# EAGLE library part DGPOT (library gm-pots)
Dual Ganged Potentiometer two voltage dividers controlled by a single knob the arrow indicates the clockwise motion of th wiper (lug 2) fully counter clockwise there is no resistance between lugs 1 and 2 fully clockwise the resistance between lugs 1 and 2 is the value of the pot
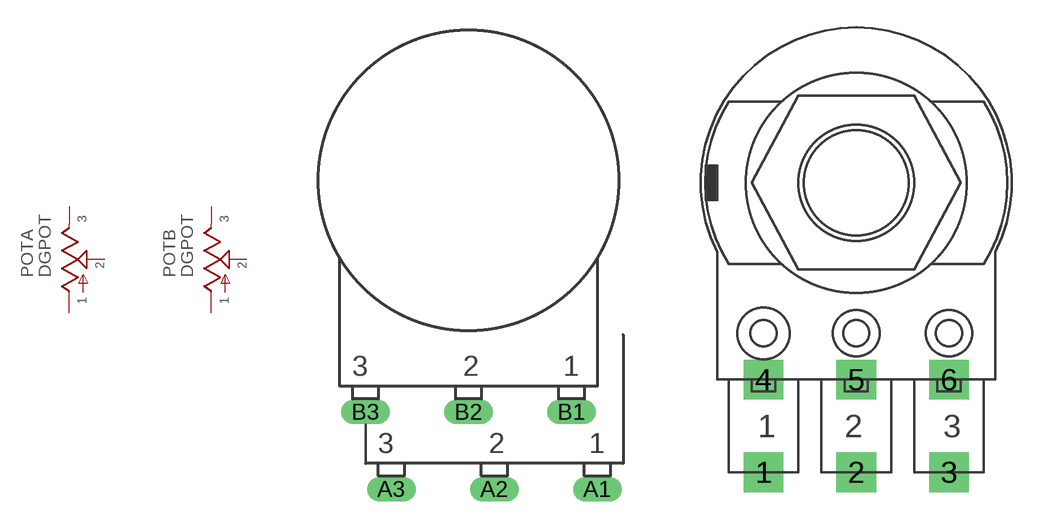
[diagram p0: symbol with the pads of 16MM-DUALGANGED; footprints 16MM-DUALGANGED, SOLDER-PIN-DUALGANGED]

Designator prefix POT; gates A=POT B=POT

## DGPOT  [16MM-DUALGANGED]
A1  A:1  pas
A2  A:2  pas
A3  A:3  pas
B1  B:1  pas
B2  B:2  pas
B3  B:3  pas

## DGPOTALPHA-DG  [SOLDER-PIN-DUALGANGED]
1  B:1  pas
2  B:2  pas
3  B:3  pas
4  A:1  pas
5  A:2  pas
6  A:3  pas

## DGPOT_GFE  [SLIDER]
1  A:1  pas
2  A:2  pas
3  A:3  pas
11  B:1  pas
12  B:2  pas
13  B:3  pas

## DGPOTSEPAR  [DG-PIN]
1-1  A:1  pas
1-2  A:2  pas
1-3  A:3  pas
2-1  B:1  pas
2-2  B:2  pas
2-3  B:3  pas

## Footprint 16MM-DUALGANGED (pad centres in mm)
drill 0.7 long: A1 6.35,-11.43; A2 1.27,-11.43; A3 -3.81,-11.43; B1 5.08,-7.62; B2 0,-7.62; B3 -5.08,-7.62

## Footprint SOLDER-PIN-DUALGANGED (pad centres in mm)
drill 1.3 pad 2.184 square: 1 -5.08,-15.875; 2 0,-15.875; 3 5.08,-15.875; 4 -5.08,-10.795; 5 0,-10.795; 6 5.08,-10.795

## Footprint SLIDER (pad centres in mm)
drill 0.8 offset: 1 -27.305,2.857; 2 27.622,0.953; 3 27.622,2.857; 11 -27.305,-0.953; 12 27.622,-2.857; 13 27.622,-0.953; V1 -27.305,0.953; V2 -27.305,-2.857
drill 1.651: P$1 16.828,0; P$2 -16.828,0

## Footprint DG-PIN (pad centres in mm)
drill 0.8 square: 1-1 -7.62,0; 2-1 2.54,0
drill 0.8: 1-2 -5.08,0; 1-3 -2.54,0; 2-2 5.08,0; 2-3 7.62,0